# Altium integrated library 282836-5.IntLib: 1 symbol
Pins are listed as number, name and electrical type; pins without a type are passive.

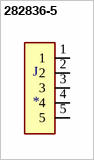
[diagram p0: symbol 282836-5]

## 282836-5
designator J
Conn Terminal Block 5 POS 5mm Solder ST Thru-Hole 13.5A/Contact; MF: TE Connectivity; MP: 282836-5; Value: *; TE_purchase_URL: https://www.te.com/usa-en/product-282836-5.html?te_bu=Cor&te_type=disp&te_campaign=seda_glo_cor-seda-global-disp-prtnr-fy19-seda-model-bom-cta_sma-317_1&elqCampaignId=32493; Price: None; SnapEDA_Link: https://www.snapeda.com/parts/282836-5/TE%20Connectivity%20AMP%20Connectors/view-part/417471/?ref=snap; EU_RoHS_Compliance: Compliant with Exemptions; Package: None; Availability: Unavailable
footprint HDRV5W100O500_5X1_2500X820X1000
pins: 1, 2, 3, 4, 5